# Altium integrated library Infineon_Power_Supply_Voltage_Regulator.IntLib: 346 symbols (part 7 of 16)
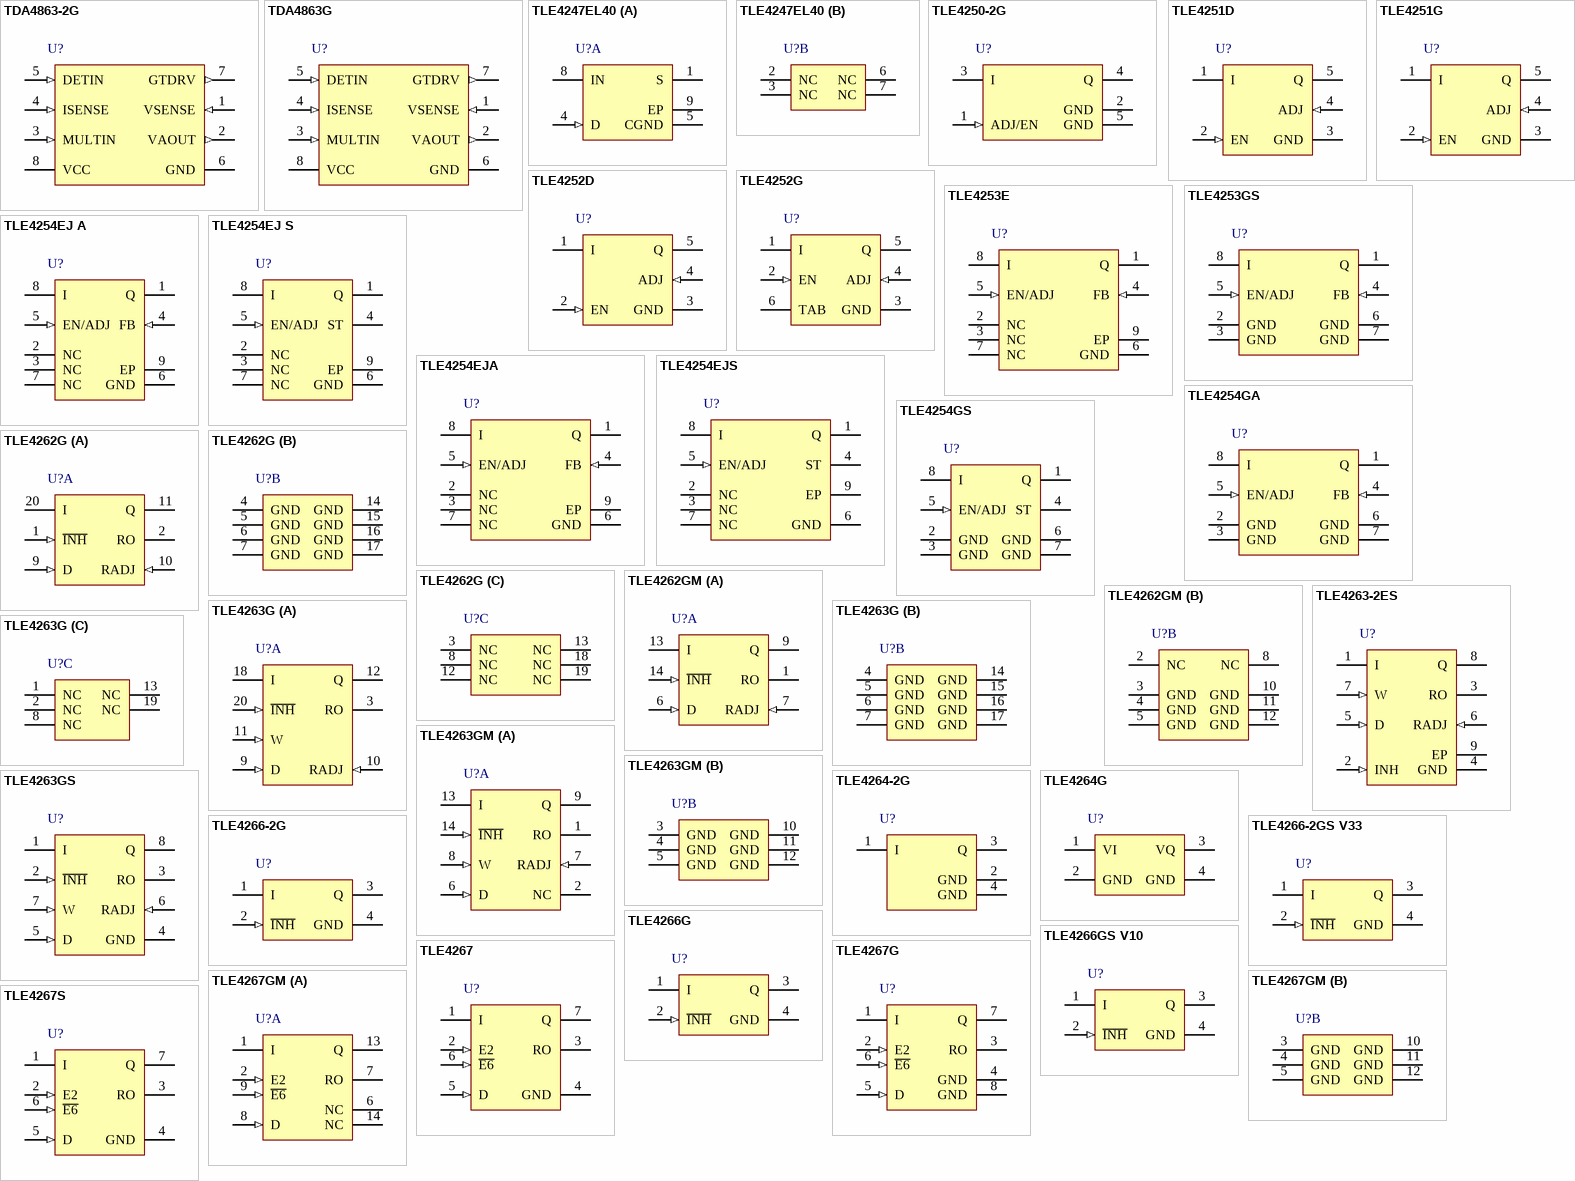
[diagram p15: symbols TDA4863-2G to TLE4267S]

## TLE4250-2G
designator U?
Low Drop Voltage Tracking Regulator, 4 to 40 V Supply, Adjustable Output, -40 to 150 degC, PG-SCT595, Reel, Green; Manufacturer: Infineon; PartNumber: TLE4250-2G; Accuracy: 0.5 %; Dropout Voltage: 100 mV; Green: TRUE; Max. Output Current: 120 mA; Operating Range: 4 to 40 V; Output Voltage: adj.; Regulator Type: tracker; Typical Quiescent Current: 10 uA; DatasheetVersion: Rev. 1.0; PackageVersion: Apr-08; PackageReference: PG-SCT595; PackageDescription: 5-Pin Semiconductor Transistor Package, 2.9 x 1.6 mm Body, 0.95 mm Pitch; Supplier 1: Mouser; Supplier Part Number 1: 726-TLE42502G; Supplier 2: Newark; Supplier Part Number 2: 47W3768; Supplier 3: Farnell; Supplier Part Number 3: 2215560; Supplier 4: Digi-Key; Supplier Part Number 4: TLE4250-2GTR-ND; Supplier 5: Digi-Key; Supplier Part Number 5: TLE4250-2GCT-ND; Supplier 6: Digi-Key; Supplier Part Number 6: TLE4250-2GDKR-ND; Packing: Reel; Mounting Technology: Surface Mount; ComponentLink1Description: Manufacturer URL; ComponentLink1URL: http://www.infineon.com/; ComponentLink2Description: Datasheet; ComponentLink2URL: http://www.infineon.com/dgdl/TLE4250-2_DS_10.pdf?folderId=db3a304412b407950112b408e8c90004&fileId=db3a304412b407950112b435578362c1&location=en.Products.Automotive_ICs.Linear_Voltage_Regulators_for_Automotive-Applications.Linear_Voltage_Regulators_-_Selection_Table.DATASHEET.TLE4250-2_DS_10.pdf; ComponentLink3Description: Package Specification; ComponentLink3URL: http://www.infineon.com/dgdl/SCT595-Package_Overview.pdf?folderId=db3a30431936bc4b01195289a4e23b8a&fileId=db3a30431936bc4b0119529a880d3bb2
footprint INF-PG-SCT595_V (SOT23, 5-Leads, Body 2.9x1.6mm, Pitch 0.95mm)
pins: 1 ADJ/EN (in) "Adjust / Enable. Connect the reference to this pin. A low signal disables the IC; a high signal switches it on.  The reference voltage can be connected directly or by a voltage divider for lower output voltages. For (See Datasheet)", 2 GND (power) "Ground reference. Interconnect the pins on PCB. Connect to heatsink area.", 3 I (power) "Input. IC supply. For compensating line influences, a capacitor close to the IC pins is recommended.", 4 Q (power) "Tracker Output. Block to GND with a capacitor close to the IC terminals, respecting capacitance and ESR  requirements given in the table “Functional Range”.", 5 GND (power) "Ground reference. Interconnect the pins on PCB. Connect to heatsink area."

## TLE4251D
designator U?
Low Drop Voltage Tracker, 4 to 40 V Supply, Adjustable Output, -40 to 150 degC, PG-TO252-5-11, Reel, Green; Manufacturer: Infineon; PartNumber: TLE4251D; Accuracy: 0.5 %; Dropout Voltage: 280 mV; Green: TRUE; Max. Output Current: 300 mA; Operating Range: 4 to 40 V; Output Voltage: adj.; Typical Quiescent Current: 230 uA; DatasheetVersion: Rev. 2.9; PackageVersion: Nov-10; PackageReference: PG-TO252-5-11; PackageDescription: 5-Pin Plastic (Green) Transistor Single Outline Package, 6.5 x 6.12 mm Body, 1.14 mm Pitch; Supplier 1: Mouser; Supplier Part Number 1: 726-TLE4251D; Supplier 2: Newark; Supplier Part Number 2: 78X5466; Supplier 3: Farnell; Supplier Part Number 3: 2432516; Supplier 4: Digi-Key; Supplier Part Number 4: TLE4251DINTR-ND; Supplier 5: Digi-Key; Supplier Part Number 5: TLE4251DINCT-ND; Supplier 6: Digi-Key; Supplier Part Number 6: TLE4251DINDKR-ND; Halogen-free: TRUE; Packing: Reel; Regulator Type: tracker; Mounting Technology: Surface Mount; ComponentLink1Description: Manufacturer URL; ComponentLink1URL: http://www.infineon.com/; ComponentLink2Description: Datasheet; ComponentLink2URL: http://www.infineon.com/dgdl/TLE4251_DS_29.pdf?folderId=db3a304318f3fe290118f5a433570040&fileId=db3a30431be39b97011c2390eefd783f&location=en.Products.Automotive_ICs.Linear_Voltage_Regulators_for_Automotive-Applications.Linear_Voltage_Regulators_-_Selection_Table.DATASHEET.TLE4251_DS_29.pdf; ComponentLink3Description: Package Specification; ComponentLink3URL: http://www.infineon.com/dgdl/TLE7276-Data+Sheet-+v1_11.pdf?folderId=db3a304412b407950112b408e8c90004&fileId=db3a304412b407950112b436c53f66c8&sId=db3a30433db6f09f013dc0e43c0428c1
footprint INF-PG-TO252-5-11_N (DPAK, 5-Leads, Body 6.5x6.12mm, Pitch 1.14mm, IPC Medium Density)
footprint INF-PG-TO252-5-11_L (DPAK, 5-Leads, Body 6.5x6.12mm, Pitch 1.14mm, IPC High Density)
footprint INF-PG-TO252-5-11_M (DPAK, 5-Leads, Body 6.5x6.12mm, Pitch 1.14mm, IPC Low Density)
pins: 1 I (power) "Supply voltage input; Input for battery or a pre-regulated  voltage of a e.g. DC to DC converter.", 2 EN (in) "Enable input for tracker; An active high signal turns on the  device, with active low the tracker is turned off.", 3 GND (power) "Ground; Connected to the heatsink of the package.", 4 ADJ (in) "Adjust input for tracker; Input for the reference voltage  which can be connected directly or by voltage divider to the  reference", 5 Q (power) "Output voltage of tracker; For a stable operation to avoid  ringing at the output connect a capacitor of CQ >= 10 uF and  0 =< ESR =< 5 ohm to GND."

## TLE4251G
designator U?
Low Drop Voltage Tracker, 4 to 40 V Supply, Adjustable Output, -40 to 150 degC, PG-TO263-5-1, Reel, Green; Manufacturer: Infineon; PartNumber: TLE4251G; Accuracy: 0.5 %; Dropout Voltage: 280 mV; Green: TRUE; Max. Output Current: 300 mA; Operating Range: 4 to 40 V; Output Voltage: adj.; Typical Quiescent Current: 230 uA; DatasheetVersion: Rev. 2.9; PackageVersion: Sep-08; PackageReference: PG-TO263-5-1; PackageDescription: 5-Pin Plastic (Green) Transistor Single Outline Package, 10 x 9.25 mm Body, 1.7 mm Pitch; Supplier 1: Mouser; Supplier Part Number 1: 726-TLE4251G; Supplier 2: Digi-Key; Supplier Part Number 2: TLE4251GTR-ND; Supplier 3: Digi-Key; Supplier Part Number 3: TLE4251GCT-ND; Supplier 4: Digi-Key; Supplier Part Number 4: TLE4251GDKR-ND; Halogen-free: TRUE; Packing: Reel; Regulator Type: tracker; Mounting Technology: Surface Mount; ComponentLink1Description: Manufacturer URL; ComponentLink1URL: http://www.infineon.com/; ComponentLink2Description: Datasheet; ComponentLink2URL: http://www.infineon.com/dgdl/TLE4251_DS_29.pdf?folderId=db3a304318f3fe290118f5a433570040&fileId=db3a30431be39b97011c2390eefd783f&location=en.Products.Automotive_ICs.Linear_Voltage_Regulators_for_Automotive-Applications.Linear_Voltage_Regulators_-_Selection_Table.DATASHEET.TLE4251_DS_29.pdf; ComponentLink3Description: Package Specification; ComponentLink3URL: http://www.infineon.com/dgdl/TLE4675_DS10.pdf?folderId=db3a30431ddc9372011e26863f92474e&fileId=db3a30431ff9881501201fa645654e52&sId=db3a30433d68e984013d8b6677a5267d
footprint INF-PG-TO263-5-1_N (DPAK, 5-Leads, Body 10x9.25mm, Pitch 1.7mm, IPC Medium Density)
footprint INF-PG-TO263-5-1_L (DPAK, 5-Leads, Body 10x9.25mm, Pitch 1.7mm, IPC High Density)
footprint INF-PG-TO263-5-1_M (DPAK, 5-Leads, Body 10x9.25mm, Pitch 1.7mm, IPC Low Density)
pins: 1 I (power) "Input voltage", 2 EN (in) "Enable; high-active input", 3 GND (power) "Ground", 4 ADJ (in) "Adjust; connect directly to the reference or with a voltage  divider to the reference (for reference-proportional output  voltages, VQ<Vref)", 5 Q (power) "Output voltage; must be blocked by a capacitor CQ >= 22 uF, ESR =< 3 ohm to GND"

## TLE4252D
designator U?
Tracking Regulator, 3.5 to 40 V Supply, -2 to 45 V Adjustable Output, -40 to 150 degC, PG-TO252-5-11, Reel, Green; Manufacturer: Infineon; PartNumber: TLE4252D; Accuracy: 0.5 %; Dropout Voltage: 280 mV; Green: TRUE; Max. Output Current: 500 mA; Output Voltage: adj.; Regulator Type: tracker; Typical Quiescent Current: 100 uA; DatasheetVersion: Rev. 1.4; PackageVersion: Nov-10; PackageReference: PG-TO252-5-11; PackageDescription: 5-Pin Plastic (Green) Transistor Single Outline Package, 6.5 x 6.12 mm Body, 1.14 mm Pitch; Supplier 1: Mouser; Supplier Part Number 1: 726-TLE4252D; Supplier 2: Digi-Key; Supplier Part Number 2: TLE4252DTR-ND; Supplier 3: Digi-Key; Supplier Part Number 3: TLE4252DCT-ND; Supplier 4: Digi-Key; Supplier Part Number 4: TLE4252DDKR-ND; Halogen-free: TRUE; Operating Range: 3.5 to 40 V; Packing: Reel; Mounting Technology: Surface Mount; ComponentLink1Description: Manufacturer URL; ComponentLink1URL: http://www.infineon.com/; ComponentLink2Description: Datasheet; ComponentLink2URL: http://www.infineon.com/dgdl/TLE4252D_DS_14%5B1%5D.pdf?folderId=db3a304318f3fe290118f5a433570040&fileId=db3a30431be39b97011c23969cf77845&location=en.Products.Automotive_ICs.Linear_Voltage_Regulators_for_Automotive-Applications.Linear_Voltage_Regulators_-_Selection_Table.DATASHEET.TLE4252D_DS_14[1].pdf; ComponentLink3Description: Package Specification; ComponentLink3URL: http://www.infineon.com/dgdl/TLE7276-Data+Sheet-+v1_11.pdf?folderId=db3a304412b407950112b408e8c90004&fileId=db3a304412b407950112b436c53f66c8&sId=db3a30433db6f09f013dc0e43c0428c1
footprint INF-PG-TO252-5-11_N (DPAK, 5-Leads, Body 6.5x6.12mm, Pitch 1.14mm, IPC Medium Density)
footprint INF-PG-TO252-5-11_L (DPAK, 5-Leads, Body 6.5x6.12mm, Pitch 1.14mm, IPC High Density)
footprint INF-PG-TO252-5-11_M (DPAK, 5-Leads, Body 6.5x6.12mm, Pitch 1.14mm, IPC Low Density)
pins: 1 I (power) "Supply voltage input; Input for battery or a pre-regulated  voltage of a e.g. DC to DC converter.", 2 EN (in) "Enable input for tracker; An active high signal turns on the  device, with active low the tracker is turned off.", 3 GND (power) "Ground; Connected to the heatsink of the package.", 4 ADJ (in) "Adjust input for tracker; Input for the reference voltage  which can be connected directly or by voltage divider to the  reference", 5 Q (power) "Output voltage of tracker; For a stable operation to avoid  ringing at the output connect a capacitor of CQ >= 10 uF and  0 =< ESR =< 5 ohm to GND."

## TLE4252G
designator U?
Low Drop Tracking Regulator, 3.5 to 40 V Supply, Adjustable Output, -40 to 150 degC, PG-TO263-5-1, Reel, Green; Manufacturer: Infineon; PartNumber: TLE4252G; Accuracy: 0.5 %; Dropout Voltage: 280 mV; Green: TRUE; Max. Output Current: 500 mA; Output Voltage: adj.; Regulator Type: tracker; Typical Quiescent Current: 100 uA; DatasheetVersion: Rev. 1.0; PackageVersion: Sep-08; PackageReference: PG-TO263-5-1; PackageDescription: 5-Pin Plastic (Green) Transistor Single Outline Package, 10 x 9.25 mm Body, 1.7 mm Pitch; Supplier 1: Mouser; Supplier Part Number 1: 726-TLE4252G; Supplier 2: Digi-Key; Supplier Part Number 2: TLE4252GTR-ND; Supplier 3: Digi-Key; Supplier Part Number 3: TLE4252GCT-ND; Supplier 4: Digi-Key; Supplier Part Number 4: TLE4252GDKR-ND; Halogen-free: TRUE; Operating Range: 3.5 to 40 V; Packing: Reel; Mounting Technology: Surface Mount; ComponentLink1Description: Manufacturer URL; ComponentLink1URL: http://www.infineon.com/; ComponentLink2Description: Datasheet; ComponentLink2URL: http://www.infineon.com/dgdl/TLE4252G_DS_10.pdf?folderId=db3a304314dca3890115039cf70d0bf0&fileId=db3a30431b0626df011b0d96f70a7e6d&location=en.Products.Automotive_ICs.Linear_Voltage_Regulators_for_Automotive-Applications.Linear_Voltage_Regulators_-_Selection_Table.DATASHEET.TLE4252G_DS_10.pdf; ComponentLink3Description: Package Specification; ComponentLink3URL: http://www.infineon.com/dgdl/TLE4675_DS10.pdf?folderId=db3a30431ddc9372011e26863f92474e&fileId=db3a30431ff9881501201fa645654e52&sId=db3a30433d68e984013d8b6677a5267d
footprint INF-PG-TO263-5-1_N (DPAK, 5-Leads, Body 10x9.25mm, Pitch 1.7mm, IPC Medium Density)
footprint INF-PG-TO263-5-1_L (DPAK, 5-Leads, Body 10x9.25mm, Pitch 1.7mm, IPC High Density)
footprint INF-PG-TO263-5-1_M (DPAK, 5-Leads, Body 10x9.25mm, Pitch 1.7mm, IPC Low Density)
pins: 1 I (power) "Supply Voltage Input;Input for battery or a per-regulated voltage of a e.g. a DC to DC converter.For compensating line influences, a capacitor to GND close to the IC pins is recommended", 2 EN (in) "Enable Input; a high signal turns on the IC,with a low signal the tracking regulator is turned off.", 3 GND (power) "Ground;connect to TAB", 4 ADJ (in) "Adjust Input; input for the reference voltage which can be connected directly or by voltage divider to the reference", 5 Q (power) "Regulator Output;block to GND with a capacitor close to the IC pins, respecting the values given for its capacitance CQ and ESR in table.", 6 TAB (power) "Connect to GND and heatsink area"

## TLE4253E
designator U?
Low Drop Voltage Tracking Regulator, 3.5 to 40 V Supply, Adjustable Output, -40 to 150 degC, PG-DSO-8-27, Reel, Green; Manufacturer: Infineon; PartNumber: TLE4253E; Accuracy: 0.5 %; Dropout Voltage: 280 mV; Green: TRUE; Max. Output Current: 250 mA; Output Voltage: adj.; Regulator Type: tracker; Typical Quiescent Current: 120 uA; DatasheetVersion: Rev. 1.2; PackageVersion: Jun-12; PackageReference: PG-DSO-8-27; PackageDescription: 8-Pin Plastic (Green) Dual Small Outline Package, 4.9 x 3.9 mm Body, 1.27 mm Pitch; Supplier 1: Mouser; Supplier Part Number 1: 726-TLE4253E; Supplier 2: Digi-Key; Supplier Part Number 2: TLE4253E-ND; Halogen-free: TRUE; Operating Range: 3.5 to 40 V; Packing: Reel; Mounting Technology: Surface Mount; Code_JEDEC: MS-012; ComponentLink1Description: Manufacturer URL; ComponentLink1URL: http://www.infineon.com/; ComponentLink2Description: Datasheet; ComponentLink2URL: http://www.infineon.com/dgdl/TLE4253_DS_12.pdf?folderId=db3a304412b407950112b408e8c90004&fileId=db3a304325305e6d01257884b4141b45&location=en.Products.Automotive_ICs.Linear_Voltage_Regulators_for_Automotive-Applications.Linear_Voltage_Regulators_-_Selection_Table.DATASHEET.TLE4253_DS_12.pdf; ComponentLink3Description: Package Specification; ComponentLink3URL: http://www.infineon.com/dgdl/ILD4071_DS_V10_November2011.pdf?folderId=db3a30431f848401011fcbf2ab4c04c4&fileId=db3a30433784a04001380498fdf04c32
footprint INF-PG-DSO-8-27_N (SOP, 8-Leads, Body 4.9x3.9mm, Pitch 1.27mm, Thermal Pad 3.2x2.85mm, IPC Medium Density)
footprint INF-PG-DSO-8-27_L (SOP, 8-Leads, Body 4.9x3.9mm, Pitch 1.27mm, Thermal Pad 3.2x2.85mm, IPC High Density)
footprint INF-PG-DSO-8-27_M (SOP, 8-Leads, Body 4.9x3.9mm, Pitch 1.27mm, Thermal Pad 3.2x2.85mm, IPC Low Density)
pins: 1 Q (power) "Tracker Output. Block to GND with a capacitor close to the IC terminals, respecting capacitance and ESR requirements given in the table "Functional Range".", 2 NC "Not Connected. Connect to GND", 3 NC "Not Connected. Connect to GND", 4 FB (in) "Feedback input. Non inverting input of the internal error amplifier to control the output voltage. Connect this pin directly to the output pin in order to obtain lower or equal output voltages with respect to the reference (See Datasheet)", 5 EN/ADJ (in) "Adjust / Enable. Connect the reference to this pin. The active high signal of the reference turns on the device; a low signal disables the IC. The reference voltage can be connected directly or by a voltage divider for lower (See Datasheet)", 6 GND (power) "Ground. Connect to Exposed Pad.", 7 NC "Not Connected. Connect to GND", 8 I (power) "Input. IC supply. For compensating line influences, a capacitor close to the IC terminals is recommended.", 9 EP (power) "Exposed Pad. Connect to GND."

## TLE4253GS
designator U?
Low Drop Voltage Tracking Regulator, 3.5 to 40 V Supply, Adjustable Output, -40 to 150 degC, PG-DSO-8-16, Reel, Green; Manufacturer: Infineon; PartNumber: TLE4253GS; Accuracy: 0.5 %; Dropout Voltage: 280 mV; Green: TRUE; Max. Output Current: 250 mA; Output Voltage: adj.; Regulator Type: tracker; Typical Quiescent Current: 120 uA; DatasheetVersion: Rev. 1.2; PackageVersion: Mar-07; PackageReference: PG-DSO-8-16; PackageDescription: 8-Pin Plastic (Green) Dual Small Outline Package, 4.9 x 3.9 mm Body, 1.27 mm Pitch; Supplier 1: Mouser; Supplier Part Number 1: 726-TLE4253GS; Supplier 2: Newark; Supplier Part Number 2: 78X5467; Supplier 3: Farnell; Supplier Part Number 3: 2432517; Supplier 4: Digi-Key; Supplier Part Number 4: TLE4253GSTR-ND; Supplier 5: Digi-Key; Supplier Part Number 5: TLE4253GSCT-ND; Supplier 6: Digi-Key; Supplier Part Number 6: TLE4253GSDKR-ND; Halogen-free: TRUE; Operating Range: 3.5 to 40 V; Packing: Reel; Mounting Technology: Surface Mount; ComponentLink1Description: Manufacturer URL; ComponentLink1URL: http://www.infineon.com/; ComponentLink2Description: Datasheet; ComponentLink2URL: http://www.infineon.com/dgdl/TLE4253_DS_12.pdf?folderId=db3a304412b407950112b408e8c90004&fileId=db3a304325305e6d01257884b4141b45&location=en.Products.Automotive_ICs.Linear_Voltage_Regulators_for_Automotive-Applications.Linear_Voltage_Regulators_-_Selection_Table.DATASHEET.TLE4253_DS_12.pdf; ComponentLink3Description: Package Specification; ComponentLink3URL: http://www.infineon.com/dgdl/TLE7259-2GE_DS_rev12.pdf?folderId=db3a3043163797a6011666d32a0c0de1&fileId=db3a3043163797a6011666d4dbb80de2&location=en.Products.Automotive_ICs.Automotive_Transceivers.LIN_Transceivers.DATASHEET.TLE7259-2GE_DS_rev12.pdf
footprint INF-PG-DSO-8-16_N (SOP, 8-Leads, Body 4.9x3.9mm, Pitch 1.27mm, IPC Medium Density)
footprint INF-PG-DSO-8-16_L (SOP, 8-Leads, Body 4.9x3.9mm, Pitch 1.27mm, IPC High Density)
footprint INF-PG-DSO-8-16_M (SOP, 8-Leads, Body 4.9x3.9mm, Pitch 1.27mm, IPC Low Density)
pins: 1 Q (power) "Tracker Output. Block to GND with a capacitor close to the IC terminals, respecting capacitance and ESR requirements given in the table "Functional Range".", 2 GND (power) "Ground reference. Interconnect the pins on PCB. Connect to heatsink area.", 3 GND (power) "Ground reference. Interconnect the pins on PCB. Connect to heatsink area.", 4 FB (in) "Feedback input (version GA only). Non inverting input of the internal error amplifier to control the output voltage. Connect this pin directly to the output pin in order to obtain lower or equal output voltages with respect (See Datasheet)", 5 EN/ADJ (in) "Adjust / Enable. Connect the reference to this pin. The active high signal of the reference turns on the device; a low signal disables the IC. The reference voltage can be connected directly or by a voltage divider for lower (See Datasheet)", 6 GND (power) "Ground reference. Interconnect the pins on PCB. Connect to heatsink area.", 7 GND (power) "Ground reference. Interconnect the pins on PCB. Connect to heatsink area.", 8 I (power) "Input. IC supply. For compensating line influences, a capacitor close to the IC terminals is recommended."

## TLE4254EJ A
designator U?
High Accuracy Low Dropout Voltage Tracking Regulator, -40 to 150 degC, PG-DSO-8-27, Reel, Green; Manufacturer: Infineon; PartNumber: TLE4254EJ A; Green: TRUE; DatasheetVersion: Rev. 1.2; PackageVersion: V01, 06/2012; PackageReference: PG-DSO-8-27; PackageDescription: 8-Pin Plastic (Green) Dual Small Outline Package, 4.9 x 3.9 mm Body, 1.27 mm Pitch; Supplier 1: Mouser; Supplier Part Number 1: 726-TLE4254EJA; Halogen-free: TRUE; Packing: Reel; Mounting Technology: Surface Mount; Code_JEDEC: MS-012; ComponentLink1Description: Manufacturer URL; ComponentLink1URL: http://www.infineon.com/; ComponentLink2Description: Datasheet; ComponentLink2URL: http://www.infineon.com/dgdl/TLE4254_DS_12.pdf?folderId=db3a304318f3fe290118f5a433570040&fileId=db3a304327b897500128012072d237c7; ComponentLink3Description: Package Specification; ComponentLink3URL: http://www.infineon.com/dgdl/ILD4071_DS_V10_November2011.pdf?folderId=db3a30431f848401011fcbf2ab4c04c4&fileId=db3a30433784a04001380498fdf04c32
footprint INF-PG-DSO-8-27_N (SOP, 8-Leads, Body 4.9x3.9mm, Pitch 1.27mm, Thermal Pad 3.2x2.85mm, IPC Medium Density)
footprint INF-PG-DSO-8-27_L (SOP, 8-Leads, Body 4.9x3.9mm, Pitch 1.27mm, Thermal Pad 3.2x2.85mm, IPC High Density)
footprint INF-PG-DSO-8-27_M (SOP, 8-Leads, Body 4.9x3.9mm, Pitch 1.27mm, Thermal Pad 3.2x2.85mm, IPC Low Density)
pins: 1 Q (power) "Tracker Output. Block to GND with a capacitor close to the IC terminals, respecting capacitance and ESR requirements given in the table “Functional Range”.", 2 NC "not connected connect to GND", 3 NC "not connected connect to GND", 4 FB (in) "Feedback input Non inverting input of the internal error amplifier to control the output voltage. Connect this pin directly to the output pin in order to obtain lower or equal output voltages  with respect to the reference (See Datasheet)", 5 EN/ADJ (in) "Adjust / Enable. Connect the reference to this pin. The active high signal of the reference turns on the device;  a low signal disables the IC. The reference voltage can be connected directly or by a voltage  divider for (See Datasheet)", 6 GND (power) "Ground reference. Interconnect the pins on PCB. Connect to heatsink area.", 7 NC "not connected connect to GND", 8 I (power) "Input. IC supply. For compensating line influences, a capacitor close to the IC terminals is  recommended.", 9 EP (power) "Exposed Pad connect to GND"

## TLE4254EJ S
designator U?
High Accuracy Low Dropout Voltage Tracking Regulator, -40 to 150 degC, PG-DSO-8-27, Reel, Green; Manufacturer: Infineon; PartNumber: TLE4254EJ S; Green: TRUE; DatasheetVersion: Rev. 1.2; PackageVersion: V01, 06/2012; PackageReference: PG-DSO-8-27; PackageDescription: 8-Pin Plastic (Green) Dual Small Outline Package, 4.9 x 3.9 mm Body, 1.27 mm Pitch; Supplier 1: Mouser; Supplier Part Number 1: 726-TLE4254EJS; Halogen-free: TRUE; Packing: Reel; Mounting Technology: Surface Mount; Code_JEDEC: MS-012; ComponentLink1Description: Manufacturer URL; ComponentLink1URL: http://www.infineon.com/; ComponentLink2Description: Datasheet; ComponentLink2URL: http://www.infineon.com/dgdl/TLE4254_DS_12.pdf?folderId=db3a304318f3fe290118f5a433570040&fileId=db3a304327b897500128012072d237c7; ComponentLink3Description: Package Specification; ComponentLink3URL: http://www.infineon.com/dgdl/ILD4071_DS_V10_November2011.pdf?folderId=db3a30431f848401011fcbf2ab4c04c4&fileId=db3a30433784a04001380498fdf04c32
footprint INF-PG-DSO-8-27_N (SOP, 8-Leads, Body 4.9x3.9mm, Pitch 1.27mm, Thermal Pad 3.2x2.85mm, IPC Medium Density)
footprint INF-PG-DSO-8-27_L (SOP, 8-Leads, Body 4.9x3.9mm, Pitch 1.27mm, Thermal Pad 3.2x2.85mm, IPC High Density)
footprint INF-PG-DSO-8-27_M (SOP, 8-Leads, Body 4.9x3.9mm, Pitch 1.27mm, Thermal Pad 3.2x2.85mm, IPC Low Density)
pins: 1 Q (power) "Tracker Output. Block to GND with a capacitor close to the IC terminals, respecting capacitance and ESR requirements given in the table “Functional Range”.", 2 NC "not connected connect to GND", 3 NC "not connected connect to GND", 4 ST (oc) "Tracking Regulator Status Output (version GS only). Open collector output. Connect via a pull-up resistor to a positive voltage rail. A low signal indicates fault condions at the regulator’s output.", 5 EN/ADJ (in) "Adjust / Enable. Connect the reference to this pin. The active high signal of the reference turns on the device;  a low signal disables the IC. The reference voltage can be connected directly or by a voltage  divider for (See Datasheet)", 6 GND (power) "Ground reference. Interconnect the pins on PCB. Connect to heatsink area.", 7 NC "not connected connect to GND", 8 I (power) "Input. IC supply. For compensating line influences, a capacitor close to the IC terminals is  recommended.", 9 EP (power) "Exposed Pad connect to GND"

## TLE4254EJA
designator U?
High Accuracy Low Drop Voltage Tracking Regulator, 4 to 45 V Supply, Adjustable Output, -40 to 150 degC, PG-DSO-8-27, Reel, Green; Manufacturer: Infineon; PartNumber: TLE4254EJA; Accuracy: 0.1 %; Dropout Voltage: 200 mV; Green: TRUE; Max. Output Current: 70 mA; Operating Range: 4 to 45 V; Output Voltage: adj.; Regulator Type: tracker; Typical Quiescent Current: 50 uA; DatasheetVersion: Rev. 1.2; PackageVersion: Jun-12; PackageReference: PG-DSO-8-27; PackageDescription: 8-Pin Plastic (Green) Dual Small Outline Package, 4.9 x 3.9 mm Body, 1.27 mm Pitch; Halogen-free: TRUE; Packing: Reel; Mounting Technology: Surface Mount; Code_JEDEC: MS-012; ComponentLink1Description: Manufacturer URL; ComponentLink1URL: http://www.infineon.com/; ComponentLink2Description: Datasheet; ComponentLink2URL: http://www.infineon.com/dgdl/TLE4254_DS_12.pdf?folderId=db3a304318f3fe290118f5a433570040&fileId=db3a304327b897500128012072d237c7&location=en.Products.Automotive_ICs.Linear_Voltage_Regulators_for_Automotive-Applications.Linear_Voltage_Regulators_-_Selection_Table.DATASHEET.TLE4254_DS_12.pdf; ComponentLink3Description: Package Specification; ComponentLink3URL: http://www.infineon.com/dgdl/ILD4071_DS_V10_November2011.pdf?folderId=db3a30431f848401011fcbf2ab4c04c4&fileId=db3a30433784a04001380498fdf04c32
footprint INF-PG-DSO-8-27_N (SOP, 8-Leads, Body 4.9x3.9mm, Pitch 1.27mm, Thermal Pad 3.2x2.85mm, IPC Medium Density)
footprint INF-PG-DSO-8-27_L (SOP, 8-Leads, Body 4.9x3.9mm, Pitch 1.27mm, Thermal Pad 3.2x2.85mm, IPC High Density)
footprint INF-PG-DSO-8-27_M (SOP, 8-Leads, Body 4.9x3.9mm, Pitch 1.27mm, Thermal Pad 3.2x2.85mm, IPC Low Density)
pins: 1 Q (power) "Tracker Output. Block to GND with a capacitor close to the IC terminals, respecting capacitance and ESR requirements given in the table "Functional Range".", 2 NC "Not Connected. Connect to GND", 3 NC "Not Connected. Connect to GND", 4 FB (in) "Feedback input. Non inverting input of the internal error amplifier to control the output voltage. Connect this pin directly to the output pin in order to obtain lower or equal output voltages with respect to the reference (See Datasheet)", 5 EN/ADJ (in) "Adjust / Enable. Connect the reference to this pin. The active high signal of the reference turns on the device; a low signal disables the IC. The reference voltage can be connected directly or by a voltage divider for lower (See Datasheet)", 6 GND (power) "Ground. Connect to Exposed Pad.", 7 NC "Not Connected. Connect to GND", 8 I (power) "Input. IC supply. For compensating line influences, a capacitor close to the IC terminals is recommended.", 9 EP (power) "Exposed Pad. Connect to GND."

## TLE4254EJS
designator U?
High Accuracy Low Drop Voltage Tracking Regulator, 4 to 45 V Supply, Adjustable Output, -40 to 150 degC, PG-DSO-8-27, Reel, Green; Manufacturer: Infineon; PartNumber: TLE4254EJS; Accuracy: 0.1 %; Dropout Voltage: 200 mV; Green: TRUE; Max. Output Current: 70 mA; Operating Range: 4 to 45 V; Output Voltage: adj.; Regulator Type: tracker; Typical Quiescent Current: 50 uA; DatasheetVersion: Rev. 1.2; PackageVersion: Jun-12; PackageReference: PG-DSO-8-27; PackageDescription: 8-Pin Plastic (Green) Dual Small Outline Package, 4.9 x 3.9 mm Body, 1.27 mm Pitch; Halogen-free: TRUE; Packing: Reel; Mounting Technology: Surface Mount; Code_JEDEC: MS-012; ComponentLink1Description: Manufacturer URL; ComponentLink1URL: http://www.infineon.com/; ComponentLink2Description: Datasheet; ComponentLink2URL: http://www.infineon.com/dgdl/TLE4254_DS_12.pdf?folderId=db3a304318f3fe290118f5a433570040&fileId=db3a304327b897500128012072d237c7&location=en.Products.Automotive_ICs.Linear_Voltage_Regulators_for_Automotive-Applications.Linear_Voltage_Regulators_-_Selection_Table.DATASHEET.TLE4254_DS_12.pdf; ComponentLink3Description: Package Specification; ComponentLink3URL: http://www.infineon.com/dgdl/ILD4071_DS_V10_November2011.pdf?folderId=db3a30431f848401011fcbf2ab4c04c4&fileId=db3a30433784a04001380498fdf04c32
footprint INF-PG-DSO-8-27_N (SOP, 8-Leads, Body 4.9x3.9mm, Pitch 1.27mm, Thermal Pad 3.2x2.85mm, IPC Medium Density)
footprint INF-PG-DSO-8-27_L (SOP, 8-Leads, Body 4.9x3.9mm, Pitch 1.27mm, Thermal Pad 3.2x2.85mm, IPC High Density)
footprint INF-PG-DSO-8-27_M (SOP, 8-Leads, Body 4.9x3.9mm, Pitch 1.27mm, Thermal Pad 3.2x2.85mm, IPC Low Density)
pins: 1 Q (power) "Tracker Output. Block to GND with a capacitor close to the IC terminals, respecting capacitance and ESR requirements given in the table "Functional Range".", 2 NC "not connected connect to GND", 3 NC "not connected connect to GND", 4 ST (oc) "Tracking Regulator Status Output (version GS only). Open collector output. Connect via a pull-up resistor to a positive voltage rail. A low signal indicates fault condions at the regulator’s output.", 5 EN/ADJ (in) "Adjust / Enable. Connect the reference to this pin. The active high signal of the reference turns on the device; a low signal disables the IC. The reference voltage can be connected directly or by a voltage divider for lower (See Datasheet)", 6 GND (power) "Ground reference. Interconnect the pins on PCB. Connect to heatsink area.", 7 NC "not connected connect to GND", 8 I (power) "Input. IC supply. For compensating line influences, a capacitor close to the IC terminals is recommended.", 9 EP (power) "Exposed Pad connect to GND"

## TLE4254GA
designator U?
High Accuracy Low Drop Voltage Tracking Regulator, 4 to 45 V Supply, Adjustable Output, -40 to 150 degC, PG-DSO-8-16, Reel, Green; Manufacturer: Infineon; PartNumber: TLE4254GA; Accuracy: 0.1 %; Dropout Voltage: 200 mV; Green: TRUE; Max. Output Current: 70 mA; Operating Range: 4 to 45 V; Output Voltage: adj.; Regulator Type: tracker; Typical Quiescent Current: 50 uA; DatasheetVersion: Rev. 1.2; PackageVersion: Mar-07; PackageReference: PG-DSO-8-16; PackageDescription: 8-Pin Plastic (Green) Dual Small Outline Package, 4.9 x 3.9 mm Body, 1.27 mm Pitch; Supplier 1: Mouser; Supplier Part Number 1: 726-TLE4254GA; Supplier 2: Digi-Key; Supplier Part Number 2: TLE4254GATR-ND; Supplier 3: Digi-Key; Supplier Part Number 3: TLE4254GACT-ND; Supplier 4: Digi-Key; Supplier Part Number 4: TLE4254GADKR-ND; Halogen-free: TRUE; Packing: Reel; Mounting Technology: Surface Mount; ComponentLink1Description: Manufacturer URL; ComponentLink1URL: http://www.infineon.com/; ComponentLink2Description: Datasheet; ComponentLink2URL: http://www.infineon.com/dgdl/TLE4254_DS_12.pdf?folderId=db3a304318f3fe290118f5a433570040&fileId=db3a304327b897500128012072d237c7&location=en.Products.Automotive_ICs.Linear_Voltage_Regulators_for_Automotive-Applications.Linear_Voltage_Regulators_-_Selection_Table.DATASHEET.TLE4254_DS_12.pdf; ComponentLink3Description: Package Specification; ComponentLink3URL: http://www.infineon.com/dgdl/TLE7259-2GE_DS_rev12.pdf?folderId=db3a3043163797a6011666d32a0c0de1&fileId=db3a3043163797a6011666d4dbb80de2&location=en.Products.Automotive_ICs.Automotive_Transceivers.LIN_Transceivers.DATASHEET.TLE7259-2GE_DS_rev12.pdf
footprint INF-PG-DSO-8-16_N (SOP, 8-Leads, Body 4.9x3.9mm, Pitch 1.27mm, IPC Medium Density)
footprint INF-PG-DSO-8-16_L (SOP, 8-Leads, Body 4.9x3.9mm, Pitch 1.27mm, IPC High Density)
footprint INF-PG-DSO-8-16_M (SOP, 8-Leads, Body 4.9x3.9mm, Pitch 1.27mm, IPC Low Density)
pins: 1 Q (power) "Tracker Output. Block to GND with a capacitor close to the IC terminals, respecting capacitance and ESR requirements given in the table "Functional Range".", 2 GND (power) "Ground reference. Interconnect the pins on PCB. Connect to heatsink area.", 3 GND (power) "Ground reference. Interconnect the pins on PCB. Connect to heatsink area.", 4 FB (in) "Feedback input (version GA only). Non inverting input of the internal error amplifier to control the output voltage. Connect this pin directly to the output pin in order to obtain lower or equal output voltages with respect (See Datasheet)", 5 EN/ADJ (in) "Adjust / Enable. Connect the reference to this pin. The active high signal of the reference turns on the device; a low signal disables the IC. The reference voltage can be connected directly or by a voltage divider for lower (See Datasheet)", 6 GND (power) "Ground reference. Interconnect the pins on PCB. Connect to heatsink area.", 7 GND (power) "Ground reference. Interconnect the pins on PCB. Connect to heatsink area.", 8 I (power) "Input. IC supply. For compensating line influences, a capacitor close to the IC terminals is recommended."

## TLE4254GS
designator U?
High Accuracy Low Drop Voltage Tracking Regulator, 4 to 45 V Supply, Adjustable Output, -40 to 150 degC, PG-DSO-8-16, Reel, Green; Manufacturer: Infineon; PartNumber: TLE4254GS; Accuracy: 0.1 %; Dropout Voltage: 200 mV; Green: TRUE; Max. Output Current: 70 mA; Operating Range: 4 to 45 V; Output Voltage: adj.; Regulator Type: tracker; Typical Quiescent Current: 50 uA; DatasheetVersion: Rev. 1.2; PackageVersion: Mar-07; PackageReference: PG-DSO-8-16; PackageDescription: 8-Pin Plastic (Green) Dual Small Outline Package, 4.9 x 3.9 mm Body, 1.27 mm Pitch; Supplier 1: Mouser; Supplier Part Number 1: 726-TLE4254GS; Supplier 2: Newark; Supplier Part Number 2: 78X5468; Supplier 3: Farnell; Supplier Part Number 3: 2432518; Supplier 4: Digi-Key; Supplier Part Number 4: TLE4254GSTR-ND; Supplier 5: Digi-Key; Supplier Part Number 5: TLE4254GSCT-ND; Supplier 6: Digi-Key; Supplier Part Number 6: TLE4254GSDKR-ND; Halogen-free: TRUE; Packing: Reel; Mounting Technology: Surface Mount; ComponentLink1Description: Manufacturer URL; ComponentLink1URL: http://www.infineon.com/; ComponentLink2Description: Datasheet; ComponentLink2URL: http://www.infineon.com/dgdl/TLE4254_DS_12.pdf?folderId=db3a304318f3fe290118f5a433570040&fileId=db3a304327b897500128012072d237c7&location=en.Products.Automotive_ICs.Linear_Voltage_Regulators_for_Automotive-Applications.Linear_Voltage_Regulators_-_Selection_Table.DATASHEET.TLE4254_DS_12.pdf; ComponentLink3Description: Package Specification; ComponentLink3URL: http://www.infineon.com/dgdl/TLE7259-2GE_DS_rev12.pdf?folderId=db3a3043163797a6011666d32a0c0de1&fileId=db3a3043163797a6011666d4dbb80de2&location=en.Products.Automotive_ICs.Automotive_Transceivers.LIN_Transceivers.DATASHEET.TLE7259-2GE_DS_rev12.pdf
footprint INF-PG-DSO-8-16_N (SOP, 8-Leads, Body 4.9x3.9mm, Pitch 1.27mm, IPC Medium Density)
footprint INF-PG-DSO-8-16_L (SOP, 8-Leads, Body 4.9x3.9mm, Pitch 1.27mm, IPC High Density)
footprint INF-PG-DSO-8-16_M (SOP, 8-Leads, Body 4.9x3.9mm, Pitch 1.27mm, IPC Low Density)
pins: 1 Q (power) "Tracker Output. Block to GND with a capacitor close to the IC terminals, respecting capacitance and ESR requirements given in the table "Functional Range".", 2 GND (power) "Ground reference. Interconnect the pins on PCB. Connect to heatsink area.", 3 GND (power) "Ground reference. Interconnect the pins on PCB. Connect to heatsink area.", 4 ST (oc) "Tracking Regulator Status Output (version GS only). Open collector output. Connect via a pull-up resistor to a positive voltage rail. A low signal indicates fault condions at the regulator’s output.", 5 EN/ADJ (in) "Adjust / Enable. Connect the reference to this pin. The active high signal of the reference turns on the device; a low signal disables the IC. The reference voltage can be connected directly or by a voltage divider for lower (See Datasheet)", 6 GND (power) "Ground reference. Interconnect the pins on PCB. Connect to heatsink area.", 7 GND (power) "Ground reference. Interconnect the pins on PCB. Connect to heatsink area.", 8 I (power) "Input. IC supply. For compensating line influences, a capacitor close to the IC terminals is recommended."

## TLE4262G
designator U?
5 V Low Drop Voltage Regulator, 5.2 to 45 V Supply, -40 to 150 degC, PG-DSO-20-35, Reel, Green; Manufacturer: Infineon; PartNumber: TLE4262G; Accuracy: 2 %; Dropout Voltage: 350 mV; Green: TRUE; Max. Output Current: 150 mA; Output Voltage: 5V; Regulator Type: single output; Typical Quiescent Current: 900 uA; DatasheetVersion: Rev. 2.8; PackageVersion: Mar-07; PackageReference: PG-DSO-20-35; PackageDescription: 20-Pin Plastic (Green) Dual Small Outline Package, 12.7 x 7.5 mm Body, 1.27 mm Pitch; Supplier 1: Mouser; Supplier Part Number 1: 726-TLE4262G; Supplier 2: Digi-Key; Supplier Part Number 2: TLE4262GTR-ND; Supplier 3: Digi-Key; Supplier Part Number 3: TLE4262GCT-ND; Supplier 4: Digi-Key; Supplier Part Number 4: TLE4262GDKR-ND; Halogen-free: TRUE; Operating Range: 5.2 to 45 V; Packing: Reel; Mounting Technology: Surface Mount; ComponentLink1Description: Manufacturer URL; ComponentLink1URL: http://www.infineon.com/; ComponentLink2Description: Datasheet; ComponentLink2URL: http://www.infineon.com/dgdl/TLE4262_DS_28%5B1%5D.pdf?folderId=db3a304314dca3890115039cf70d0bf0&fileId=db3a30431ddc9372011eb6e49ab6783d&location=en.Products.Automotive_ICs.Linear_Voltage_Regulators_for_Automotive-Applications.Linear_Voltage_Regulators_-_Selection_Table.DATASHEET.TLE4262_DS_28[1].pdf; ComponentLink3Description: Package Specification; ComponentLink3URL: http://www.infineon.com/dgdl/TLE4263_DS_28%5B1%5D.pdf?folderId=db3a304318f3fe290118f5a433570040&fileId=db3a30431be39b97011c23b7fde27855&sId=db3a30433d68e984013d81aeba1073f4
footprint INF-PG-DSO-20-35_N (SOP, 20-Leads, Body 12.7x7.5mm, Pitch 1.27mm, IPC Medium Density)
footprint INF-PG-DSO-20-35_L (SOP, 20-Leads, Body 12.7x7.5mm, Pitch 1.27mm, IPC High Density)
footprint INF-PG-DSO-20-35_M (SOP, 20-Leads, Body 12.7x7.5mm, Pitch 1.27mm, IPC Low Density)
part A pins: 1 ~{INH} (in) "INH Inhibit; TTL-compatible, low-active input", 2 RO (oc) "Reset output; open-collector output internally connected to the output via a resistor of 30 k ohm.", 9 D (in) "Reset delay; connect capacitor to GND for setting delay time", 10 RADJ (in) "Reset threshold; for setting the switching threshold connect by a voltage divider from output to ground. If this input is connected to GND, reset is triggered at an output voltage of 4.5 V.", 11 Q (power) "5-V output voltage; block to ground by capacitor with C >= 22 uF, ESR =< 3 ohm at 10 kHz.", 20 I (power) "Input voltage; block to ground directly at the IC by a ceramic capacitor."
part B pins: 4 GND (power) "Ground", 5 GND (power) "Ground", 6 GND (power) "Ground", 7 GND (power) "Ground", 14 GND (power) "Ground", 15 GND (power) "Ground", 16 GND (power) "Ground", 17 GND (power) "Ground"
part C pins: 3 NC "Not connected", 8 NC "Not connected", 12 NC "Not connected", 13 NC "Not connected", 18 NC "Not connected", 19 NC "Not connected"

## TLE4262GM
designator U?
5 V Low Drop Voltage Regulator, 5.2 to 45 V Supply, -40 to 150 degC, PG-DSO-14-30, Reel, Green; Manufacturer: Infineon; PartNumber: TLE4262GM; Accuracy: 2 %; Dropout Voltage: 350 mV; Green: TRUE; Max. Output Current: 150 mA; Output Voltage: 5V; Regulator Type: single output; Typical Quiescent Current: 900 uA; DatasheetVersion: Rev. 2.8; PackageVersion: Oct-07; PackageReference: PG-DSO-14-30; PackageDescription: 14-Pin Plastic (Green) Dual Small Outline Package, 8.65 x 3.9 mm Body, 1.27 mm Pitch; Supplier 1: Mouser; Supplier Part Number 1: 726-TLE4262GM; Supplier 2: Digi-Key; Supplier Part Number 2: TLE4262GMTR-ND; Supplier 3: Digi-Key; Supplier Part Number 3: TLE4262GMCT-ND; Supplier 4: Digi-Key; Supplier Part Number 4: TLE4262GMDKR-ND; Halogen-free: TRUE; Operating Range: 5.2 to 45 V; Packing: Reel; Mounting Technology: Surface Mount; ComponentLink1Description: Manufacturer URL; ComponentLink1URL: http://www.infineon.com/; ComponentLink2Description: Datasheet; ComponentLink2URL: http://www.infineon.com/dgdl/TLE4262_DS_28%5B1%5D.pdf?folderId=db3a304314dca3890115039cf70d0bf0&fileId=db3a30431ddc9372011eb6e49ab6783d&location=en.Products.Automotive_ICs.Linear_Voltage_Regulators_for_Automotive-Applications.Linear_Voltage_Regulators_-_Selection_Table.DATASHEET.TLE4262_DS_28[1].pdf; ComponentLink3Description: Package Specification; ComponentLink3URL: http://www.infineon.com/dgdl/TLE4299v33_DS_11%5B1%5D.pdf?folderId=db3a304318f3fe290118f5a433570040&fileId=db3a30431c48a312011c55c733b0022b&sId=db3a30433d68e984013d8b6475e4267b
footprint INF-PG-DSO-14-30_N (SOP, 14-Leads, Body 8.65x3.9mm, Pitch 1.27mm, IPC Medium Density)
footprint INF-PG-DSO-14-30_L (SOP, 14-Leads, Body 8.65x3.9mm, Pitch 1.27mm, IPC High Density)
footprint INF-PG-DSO-14-30_M (SOP, 14-Leads, Body 8.65x3.9mm, Pitch 1.27mm, IPC Low Density)
part A pins: 1 RO (oc) "Reset output; open-collector output internally connected to the output via a resistor of 30 k ohm.", 6 D (in) "Reset delay; connect capacitor to GND for setting delay time", 7 RADJ (in) "Reset threshold; for setting the switching threshold connect by a voltage divider from output to ground. If this input is connected to GND, reset is triggered at an output voltage of 4.5 V.", 9 Q (power) "5-V output voltage; block to ground by capacitor with C >= 22 uF, ESR =< 3 ohm at 10 kHz.", 13 I (power) "Input voltage; block to ground directly at the IC by a ceramic capacitor.", 14 ~{INH} (in) "Inhibit; TTL-compatible, low-active input"
part B pins: 2 NC "Not connected", 3 GND (power) "Ground", 4 GND (power) "Ground", 5 GND (power) "Ground", 8 NC "Not connected", 10 GND (power) "Ground", 11 GND (power) "Ground", 12 GND (power) "Ground"

## TLE4263-2ES
designator U?
5 V Low Drop Voltage Regulator, 5.5 to 45 V Supply, -40 to 150 degC, PG-DSO-8-27, Reel, Green; Manufacturer: Infineon; PartNumber: TLE4263-2ES; Accuracy: 2 %; Dropout Voltage: 350 mV; Green: TRUE; Max. Output Current: 180 mA; Output Voltage: 5V; Regulator Type: single output; Typical Quiescent Current: 900 uA; DatasheetVersion: Rev. 1.0; PackageVersion: Jun-12; PackageReference: PG-DSO-8-27; PackageDescription: 8-Pin Plastic (Green) Dual Small Outline Package, 4.9 x 3.9 mm Body, 1.27 mm Pitch; Supplier 1: Mouser; Supplier Part Number 1: 726-TLE42632ES; Supplier 2: Digi-Key; Supplier Part Number 2: TLE4263-2ESTR-ND; Supplier 3: Digi-Key; Supplier Part Number 3: TLE4263-2ESCT-ND; Supplier 4: Digi-Key; Supplier Part Number 4: TLE4263-2ESDKR-ND; Halogen-free: TRUE; Operating Range: 5.5 to 45 V; Packing: Reel; Mounting Technology: Surface Mount; Code_JEDEC: MS-012; ComponentLink1Description: Manufacturer URL; ComponentLink1URL: http://www.infineon.com/; ComponentLink2Description: Datasheet; ComponentLink2URL: http://www.infineon.com/dgdl/TLE4263-2ES_DS_10.pdf?folderId=db3a30431ddc9372011e26863f92474e&fileId=db3a304320d39d590120f65eeade6a28&location=en.Products.Automotive_ICs.Linear_Voltage_Regulators_for_Automotive-Applications.Linear_Voltage_Regulators_-_Selection_Table.DATASHEET.TLE4263-2ES_DS_10.pdf; ComponentLink3Description: Package Specification; ComponentLink3URL: http://www.infineon.com/dgdl/ILD4071_DS_V10_November2011.pdf?folderId=db3a30431f848401011fcbf2ab4c04c4&fileId=db3a30433784a04001380498fdf04c32
footprint INF-PG-DSO-8-27_N (SOP, 8-Leads, Body 4.9x3.9mm, Pitch 1.27mm, Thermal Pad 3.2x2.85mm, IPC Medium Density)
footprint INF-PG-DSO-8-27_L (SOP, 8-Leads, Body 4.9x3.9mm, Pitch 1.27mm, Thermal Pad 3.2x2.85mm, IPC High Density)
footprint INF-PG-DSO-8-27_M (SOP, 8-Leads, Body 4.9x3.9mm, Pitch 1.27mm, Thermal Pad 3.2x2.85mm, IPC Low Density)
pins: 1 I (power) "Input for compensating line influences, a capacitor to GND close to the IC terminals is recommended", 2 INH (in) "Inhibit enables/disables the device; connect to I if the this function is not needed", 3 RO (oc) "Reset Output open-collector output connected to the output via an internal 30k ohm pull-up resistor; leave open if the this function is not needed", 4 GND (power) "Ground", 5 D (in) "Reset Delay Timing connect a ceramic capacitor to GND for adjusting the reset delay time / watchdog trigger time; leave open if this function is not needed", 6 RADJ (in) "Reset Threshold Adjust connect an external voltage divider to adjust the reset switching threshold; connect to GND for using internal threshold", 7 W (in) "Watchdog rising edge triggered input for monitoring a microcontroller; connect to GND if this function is not needed", 8 Q (power) "Output block to ground with a capacitor close to the IC terminals with a capacitance value C >= 22 uF, and an ESR =< 3 ohm", 9 EP (power) "Exposed Pad attach the exposed pad on package bottom to the heatsink area on circuit board; connect to GND"

## TLE4263G
designator U?
5 V Low Drop Voltage Regulator, 5.5 to 45 V Supply, -40 to 150 degC, PG-DSO-20-35, Reel, Green; Manufacturer: Infineon; PartNumber: TLE4263G; Accuracy: 2 %; Dropout Voltage: 350 mV; Green: TRUE; Max. Output Current: 180 mA; Output Voltage: 5V; Regulator Type: single output; Typical Quiescent Current: 900 uA; DatasheetVersion: Rev. 2.8; PackageVersion: Mar-07; PackageReference: PG-DSO-20-35; PackageDescription: 20-Pin Plastic (Green) Dual Small Outline Package, 12.7 x 7.5 mm Body, 1.27 mm Pitch; Supplier 1: Mouser; Supplier Part Number 1: 726-TLE4263G; Supplier 2: Digi-Key; Supplier Part Number 2: TLE4263GTR-ND; Supplier 3: Digi-Key; Supplier Part Number 3: TLE4263GCT-ND; Supplier 4: Digi-Key; Supplier Part Number 4: TLE4263GDKR-ND; Halogen-free: TRUE; Operating Range: 5.5 to 45 V; Packing: Reel; Mounting Technology: Surface Mount; ComponentLink1Description: Manufacturer URL; ComponentLink1URL: http://www.infineon.com/; ComponentLink2Description: Datasheet; ComponentLink2URL: http://www.infineon.com/dgdl/TLE4263_DS_28%5B1%5D.pdf?folderId=db3a304318f3fe290118f5a433570040&fileId=db3a30431be39b97011c23b7fde27855&location=en.Products.Automotive_ICs.Linear_Voltage_Regulators_for_Automotive-Applications.Linear_Voltage_Regulators_-_Selection_Table.DATASHEET.TLE4263_DS_28[1].pdf; ComponentLink3Description: Package Specification; ComponentLink3URL: http://www.infineon.com/dgdl/TLE4263_DS_28%5B1%5D.pdf?folderId=db3a304318f3fe290118f5a433570040&fileId=db3a30431be39b97011c23b7fde27855&sId=db3a30433d68e984013d81aeba1073f4
footprint INF-PG-DSO-20-35_N (SOP, 20-Leads, Body 12.7x7.5mm, Pitch 1.27mm, IPC Medium Density)
footprint INF-PG-DSO-20-35_L (SOP, 20-Leads, Body 12.7x7.5mm, Pitch 1.27mm, IPC High Density)
footprint INF-PG-DSO-20-35_M (SOP, 20-Leads, Body 12.7x7.5mm, Pitch 1.27mm, IPC Low Density)
part A pins: 3 RO (oc) "Reset output; open-collector output connected to the output via a resistor of 30 k ohm.", 9 D (in) "Reset delay; connected to ground with a capacitor.", 10 RADJ (in) "Reset threshold; to adjust the switching threshold connect a voltage divider (output to GND) to the pin. If this input is connected to GND, reset is triggered at an output voltage of 4.5 V.", 11 W (in) "Watchdog; rising edge triggered input for monitoring a microcontroller.", 12 Q (power) "5-V output voltage; block to ground with a capacitor, C >= 22 uF, ESR =< 3 ohm at 10 kHz", 18 I (power) "Input voltage; block to ground directly at the IC with a ceramic capacitor.", 20 ~{INH} (in) "Inhibit; TTL-compatible, low-active input."
part B pins: 4 GND (power) "Ground", 5 GND (power) "Ground", 6 GND (power) "Ground", 7 GND (power) "Ground", 14 GND (power) "Ground", 15 GND (power) "Ground", 16 GND (power) "Ground", 17 GND (power) "Ground"
part C pins: 1 NC "Not connected", 2 NC "Not connected", 8 NC "Not connected", 13 NC "Not connected", 19 NC "Not connected"

## TLE4263GM
designator U?
5 V Low Drop Voltage Regulator, 5.5 to 45 V Supply, -40 to 150 degC, PG-DSO-14-30, Reel, Green; Manufacturer: Infineon; PartNumber: TLE4263GM; Accuracy: 2 %; Dropout Voltage: 350 mV; Green: TRUE; Max. Output Current: 180 mA; Output Voltage: 5V; Regulator Type: single output; Typical Quiescent Current: 900 uA; DatasheetVersion: Rev. 2.8; PackageVersion: Oct-07; PackageReference: PG-DSO-14-30; PackageDescription: 14-Pin Plastic (Green) Dual Small Outline Package, 8.65 x 3.9 mm Body, 1.27 mm Pitch; Supplier 1: Mouser; Supplier Part Number 1: 726-TLE4263GM; Supplier 2: Newark; Supplier Part Number 2: 78X5469; Supplier 3: Farnell; Supplier Part Number 3: 2432519; Supplier 4: Digi-Key; Supplier Part Number 4: TLE4263GMTR-ND; Supplier 5: Digi-Key; Supplier Part Number 5: TLE4263GMCT-ND; Supplier 6: Digi-Key; Supplier Part Number 6: TLE4263GMDKR-ND; Halogen-free: TRUE; Operating Range: 5.5 to 45 V; Packing: Reel; Mounting Technology: Surface Mount; ComponentLink1Description: Manufacturer URL; ComponentLink1URL: http://www.infineon.com/; ComponentLink2Description: Datasheet; ComponentLink2URL: http://www.infineon.com/dgdl/TLE4263_DS_28%5B1%5D.pdf?folderId=db3a304318f3fe290118f5a433570040&fileId=db3a30431be39b97011c23b7fde27855&location=en.Products.Automotive_ICs.Linear_Voltage_Regulators_for_Automotive-Applications.Linear_Voltage_Regulators_-_Selection_Table.DATASHEET.TLE4263_DS_28[1].pdf; ComponentLink3Description: Package Specification; ComponentLink3URL: http://www.infineon.com/dgdl/TLE4299v33_DS_11%5B1%5D.pdf?folderId=db3a304318f3fe290118f5a433570040&fileId=db3a30431c48a312011c55c733b0022b&sId=db3a30433d68e984013d8b6475e4267b
footprint INF-PG-DSO-14-30_N (SOP, 14-Leads, Body 8.65x3.9mm, Pitch 1.27mm, IPC Medium Density)
footprint INF-PG-DSO-14-30_L (SOP, 14-Leads, Body 8.65x3.9mm, Pitch 1.27mm, IPC High Density)
footprint INF-PG-DSO-14-30_M (SOP, 14-Leads, Body 8.65x3.9mm, Pitch 1.27mm, IPC Low Density)
part A pins: 1 RO (oc) "Reset output; open-collector output connected to the output via a resistor of 30 k ohm.", 2 NC "Not connected", 6 D (in) "Reset delay; connected to ground with a capacitor.", 7 RADJ (in) "Reset threshold; to adjust the switching threshold connect a voltage divider (output to GND) to the pin. If this input is connected to GND, reset is triggered at an output voltage of 4.5 V.", 8 W (in) "Watchdog; rising edge triggered input for monitoring a microcontroller.", 9 Q (power) "5-V output voltage; block to ground with a capacitor, C >= 22 μF, ESR =< 3 ohm at 10 kHz", 13 I (power) "Input voltage; block to ground directly at the IC with a ceramic capacitor.", 14 ~{INH} (in) "Inhibit; TTL-compatible, low-active input."
part B pins: 3 GND (power) "Ground", 4 GND (power) "Ground", 5 GND (power) "Ground", 10 GND (power) "Ground", 11 GND (power) "Ground", 12 GND (power) "Ground"